# Altium footprint library KR5R5C105R.PcbLib: 1 footprints
Each footprint in its own frame and in the unit in brackets; x right, y up, seen from the top. Pads: shape width x height; smd on the part's side, far side on the other; paste and mask are expansions set on the pad; w line width, h text height; cw(c..) or ccw(c..) is an arc to the next point about the centre after c.
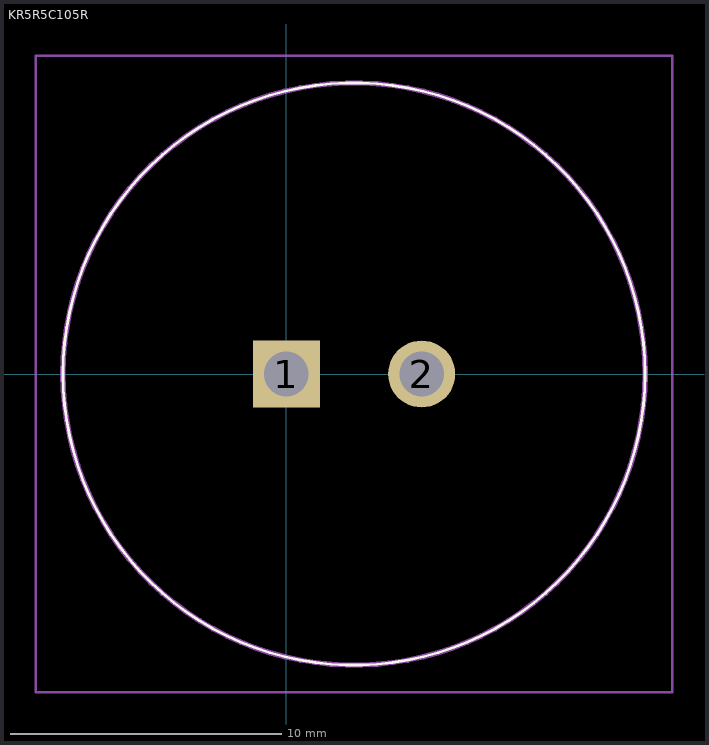
[diagram p0: the footprint, top view; thin cyan lines are the x and y axes]

## KR5R5C105R [mm]
pads (2):
  rect 2.475x2.475 hole 1.65: 1(0,0)
  round 2.475 hole 1.65: 2(5,0)
Top Overlay:
  lines w0.1: -8.25,0 -8.25,0 ; -8.25,0 ccw(c2.5,0) 13.25,0 ; -8.25,0 cw(c2.5,0) 13.25,0 ; 13.25,0 13.25,0
Mechanical 15:
  lines w0.2: -8.25,0 -8.25,0 ; -8.25,0 ccw(c2.5,0) 13.25,0 ; -8.25,0 cw(c2.5,0) 13.25,0 ; 13.25,0 13.25,0
Mechanical 20:
  lines w0.1: -9.25,-11.75 14.25,-11.75 14.25,11.75 -9.25,11.75 -9.25,-11.75